# Altium schematic symbol library Other.SchLib: 179 symbols (part 5 of 11)
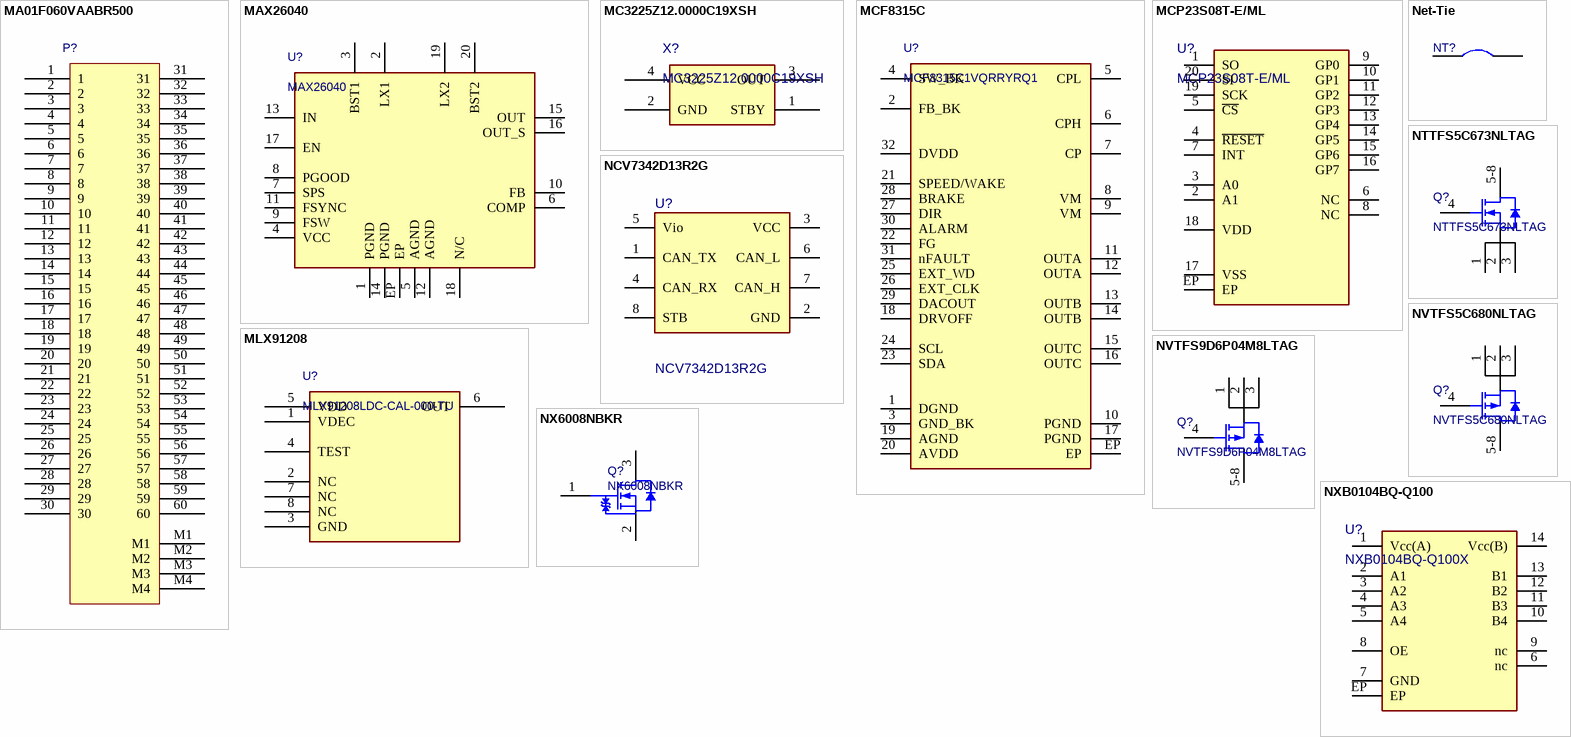
[diagram p12: symbols MA01F060VAABR500 to NXB0104BQ-Q100]

## MCF8315C
designator U?, comment MCF8315C1VQRRYRQ1
Automotive, 40V max, 4A peak, sensorless field-oriented control (FOC) three-phase BLDC motor driver 32-WQFN -40 to 125; Manufacturer: Texas Instruments; Manufacturer Lifecycle Status: ACTIVE; Supplier 1: DigiKey; Supplier Part Number 1: 296-MCF8315C1VQRRYRQ1DKR-ND; Supplier: DigiKey; Supplier Part Number: 296-MCF8315C1VQRRYRQ1DKR-ND; Manufacturer Part Number: MCF8315C1VQRRYRQ1; RoHS: Compliant; Category: Motor Drivers; Pricing: 1=3,67, 10=2,765, 25=2,5392, 100=2,2907, 250=2,17224, 500=2,10084, 1000=2,04208 (USD); Height: 0m; Length: 6mm; Lifecycle Status: Production; Pins: 32; Thickness: 750µm; Width: 4mm; ComponentLink1URL: https://octopart.com:443/opatz8j6/c1?t=RuAKfQwGILErvlz8zObGCjysyK35VJebKBo7uiQpDsL-Xu3haLU6nlF-Ke52ETAZGTbY71omBecyeqNsyvvtQ3kOq347mDWPohrP76M5npt7qIaEEkUcgolibZnC5AjYjxqFyNvOYPDYcX3mZK7ZZMntvvKuK7BfjyLBfFXWBsUJ8YTa8N-u7R_tul0YdjaZA02TaLLH1o9ZC1B2h8Uz3hQHikWUuIG6XvYByXbHPr8e9-29f5clexOhyBBf2amzmzL3vCnDiqKIkF7JJtbXNTFsSzyo5gNa_bWAZ72OTxjPX_UKZmLV5eClsdNjsZfrz8jFxlHuq5QuQavInHZcmOg-nwanHH8BZ0-NJaptGVIRFHBt9s2mF-s4DxvOnw8C0c9xCVa2k_rFFA&src-supplier=Texas+Instruments; ComponentLink1Description: https://octopart.com:443/opatz8j6/c1?t=RuAKfQwGILErvlz8zObGCjysyK35VJebKBo7uiQpDsL-Xu3haLU6nlF-Ke52ETAZGTbY71omBecyeqNsyvvtQ3kOq347mDWPohrP76M5npt7qIaEEkUcgolibZnC5AjYjxqFyNvOYPDYcX3mZK7ZZMntvvKuK7BfjyLBfFXWBsUJ8YTa8N-u7R_tul0YdjaZA02TaLLH1o9ZC1B2h8Uz3hQHikWUuIG6XvYByXbHPr8e9-29f5clexOhyBBf2amzmzL3vCnDiqKIkF7JJtbXNTFsSzyo5gNa_bWAZ72OTxjPX_UKZmLV5eClsdNjsZfrz8jFxlHuq5QuQavInHZcmOg-nwanHH8BZ0-NJaptGVIRFHBt9s2mF-s4DxvOnw8C0c9xCVa2k_rFFA&src-supplier=Texas+Instruments; ComponentLink2URL: http://sigma.octopart.com:80/conflict_mineral_statement/Texas-Instruments-company-63.pdf?src-supplier=Compliance+Statements; ComponentLink2Description: http://sigma.octopart.com:80/conflict_mineral_statement/Texas-Instruments-company-63.pdf?src-supplier=Compliance+Statements; ComponentLink3URL: http://sigma.octopart.com:80/reach_statement/Texas-Instruments-company-64.pdf?src-supplier=Compliance+Statements; ComponentLink3Description: http://sigma.octopart.com:80/reach_statement/Texas-Instruments-company-64.pdf?src-supplier=Compliance+Statements
footprint VQFN32(4x6) (VQFN, 32-Leads, Body 4x6mm)
pins: 1 DGND, 2 FB_BK, 3 GND_BK, 4 SW_BK, 5 CPL, 6 CPH, 7 CP, 8 VM, 9 VM, 10 PGND, 11 OUTA, 12 OUTA, 13 OUTB, 14 OUTB, 15 OUTC, 16 OUTC, 17 PGND, 18 DRVOFF, 19 AGND, 20 AVDD, 21 SPEED/WAKE, 22 FG, 23 SDA, 24 SCL, 25 EXT_WD, 26 EXT_CLK, 27 DIR, 28 BRAKE, 29 DACOUT, 30 ALARM, 31 nFAULT, 32 DVDD, EP

## MCP23S08T-E/ML
designator U?
IC XPNDR 10MHZ SPI 20QFN; Manufacturer: Microchip; Interface: SPI, Serial; Number of I/Os: 8; Operating Supply Voltage: 5.5V; Power Dissipation: 700mW; Supplier: DigiKey; Supplier Part Number: MCP23S08T-E/MLCT-ND; Manufacturer Part Number: MCP23S08T-E/ML; RoHS: Compliant; Category: I/O Expanders; Stock: 10645; Pricing: 1=1,65, 25=1,37, 100=1,325 (USD); Projected EOL Date: 2034-10-04; Case/Package: QFN; Contact Plating: Tin; Country of Assembly: Thailand; Country of Fabrication: United States of America; Country of Origin: Thailand; Export Control Classification Number (ECCN) Code: EAR99; Frequency: 10MHz; Harmonized Tariff Schedule (HTS) Code: 8542.39.0060; Introduction Date: 2006-10-04; Lead Free: Lead Free; Lifecycle Status: Production; Clock Frequency: 10MHz; Max Operating Temperature: 125°C; Min Operating Temperature: -40°C; Pins: 20; Schedule B: 8542390000, 8542390000|8542390000|8542390000|8542390000|8542390000; ComponentLink1URL: https://datasheet.octopart.com:443/MCP23S08T-E/ML-Microchip-datasheet-608140.pdf?src-supplier=Electro+Sonic; ComponentLink1Description: https://datasheet.octopart.com:443/MCP23S08T-E/ML-Microchip-datasheet-608140.pdf?src-supplier=Electro+Sonic; ComponentLink2URL: https://datasheet.octopart.com:443/MCP23S08T-E-ML-Microchip-datasheet-147334618.pdf?src-supplier=Augswan; ComponentLink2Description: https://datasheet.octopart.com:443/MCP23S08T-E-ML-Microchip-datasheet-147334618.pdf?src-supplier=Augswan; ComponentLink3URL: https://datasheet.octopart.com:443/MCP23S08T-E-ML-Microchip-datasheet-158592061.pdf?src-supplier=SHENGYU+ELECTRONICS; ComponentLink3Description: https://datasheet.octopart.com:443/MCP23S08T-E-ML-Microchip-datasheet-158592061.pdf?src-supplier=SHENGYU+ELECTRONICS; ComponentLink4URL: https://datasheet.octopart.com:443/MCP23S08T-E/ML-Microchip-datasheet-139544.pdf?src-supplier=DigiKey; ComponentLink4Description: https://datasheet.octopart.com:443/MCP23S08T-E/ML-Microchip-datasheet-139544.pdf?src-supplier=DigiKey; ComponentLink5URL: https://datasheet.octopart.com:443/MCP23S08T-E/ML-Microchip-datasheet-204.pdf?src-supplier=Mouser; ComponentLink5Description: https://datasheet.octopart.com:443/MCP23S08T-E/ML-Microchip-datasheet-204.pdf?src-supplier=Mouser; ComponentLink6URL: https://datasheet.octopart.com:443/MCP23S08T-E-ML-Microchip-datasheet-166015138.pdf?src-supplier=Microchip; ComponentLink6Description: https://datasheet.octopart.com:443/MCP23S08T-E-ML-Microchip-datasheet-166015138.pdf?src-supplier=Microchip; ComponentLink7URL: http://sigma.octopart.com:80/188450168/materials_sheet/Microchip-MCP23S08T-E-ML.pdf?src-supplier=Compliance+Statements; ComponentLink7Description: http://sigma.octopart.com:80/188450168/materials_sheet/Microchip-MCP23S08T-E-ML.pdf?src-supplier=Compliance+Statements; ComponentLink8URL: http://sigma.octopart.com:80/conflict_mineral_statement/Microchip-company-68.pdf?src-supplier=Compliance+Statements; ComponentLink8Description: http://sigma.octopart.com:80/conflict_mineral_statement/Microchip-company-68.pdf?src-supplier=Compliance+Statements; ComponentLink9URL: http://sigma.octopart.com:80/conflict_mineral_statement/Microchip-company-69.pdf?src-supplier=Compliance+Statements; ComponentLink9Description: http://sigma.octopart.com:80/conflict_mineral_statement/Microchip-company-69.pdf?src-supplier=Compliance+Statements; ComponentLink10URL: http://sigma.octopart.com:80/reach_statement/Microchip-company-70.pdf?src-supplier=Compliance+Statements; ComponentLink10Description: http://sigma.octopart.com:80/reach_statement/Microchip-company-70.pdf?src-supplier=Compliance+Statements; ComponentLink11URL: http://sigma.octopart.com:80/rohs_statement/Microchip-company-71.pdf?src-supplier=Compliance+Statements; ComponentLink11Description: http://sigma.octopart.com:80/rohs_statement/Microchip-company-71.pdf?src-supplier=Compliance+Statements; Supplier 1: DigiKey; Supplier Part Number 1: MCP23S08T-E/MLCT-ND
footprint QFN-20(4x4) (Plastic low profile quad flat package; 20Pin; 4X4mm)
pins: 1 SO, 2 A1, 3 A0, 4 ~{RESET}, 5 ~{CS}, 6 NC, 7 INT, 8 NC, 9 GP0, 10 GP1, 11 GP2, 12 GP3, 13 GP4, 14 GP5, 15 GP6, 16 GP7, 17 VSS, 18 VDD, 19 SCK, 20 SI, EP

## MLX91208
designator U?, comment MLX91208LDC-CAL-000-TU
Hall Effect Sensor, -10mT Min, 10mT Max, -2-2mA, Plastic/epoxy, Rectangular, 8 Pin, Surface Mount; Manufacturer: Melexis; Accuracy: 0.1%; Current Rating: 14mA; Frequency: 200kHz; Linearity: 0.75%; Max Junction Temperature (Tj): 155°C; Max Output current: 2mA; Max Supply Voltage: 5.5V; Min Supply Voltage: 4.5V; Number of Channels: 1; Operating Supply Current: 12mA; Output Configuration: Analog; Polarity: Bidirectional; Response Time: 3µs; Supplier 1: DigiKey; Supplier Part Number 1: MLX91208LDC-CAL-000-TU-ND; Supplier: DigiKey; Supplier Part Number: MLX91208LDC-CAL-000-TU-ND; Manufacturer Part Number: MLX91208LDC-CAL-000-TU; RoHS: Compliant; Category: Magnetic Sensors; Stock: 619; Pricing: 1=4,05, 5=3,624, 10=3,468, 25=3,28, 80=3,071, 160=2,96038, 560=2,78313, 1040=2,70527 (USD); Ambient Temperature Range High: 150°C; Case/Package: SOIC; Height: 1.64mm; Lead Free: Lead Free; Length: 4.89mm; Lifecycle Status: Production; Max Operating Temperature: 150°C; Max Supply Current: 14mA; Min Operating Temperature: -40°C; Mounting Technology: Surface Mount; Number of Terminals: 8; Output Current: 2mA; REACH SVHC: Yes; Sensing Method: Hall Effect; ComponentLink1URL: https://datasheet.octopart.com:443/MLX91208LDC-CAL-000-TU-Melexis-datasheet-180628137.pdf?src-supplier=IHS; ComponentLink1Description: https://datasheet.octopart.com:443/MLX91208LDC-CAL-000-TU-Melexis-datasheet-180628137.pdf?src-supplier=IHS; ComponentLink2URL: https://datasheet.octopart.com:443/MLX91208LDC-CAL-000-TU-Melexis-datasheet-62983323.pdf?src-supplier=Future+Electronics; ComponentLink2Description: https://datasheet.octopart.com:443/MLX91208LDC-CAL-000-TU-Melexis-datasheet-62983323.pdf?src-supplier=Future+Electronics; ComponentLink3URL: https://datasheet.octopart.com:443/MLX91208LDC-CAL-000-TU-Melexis-datasheet-31820421.pdf?src-supplier=Future+Electronics; ComponentLink3Description: https://datasheet.octopart.com:443/MLX91208LDC-CAL-000-TU-Melexis-datasheet-31820421.pdf?src-supplier=Future+Electronics
footprint SOIC8 (8-SOIC (0.154", 3.90mm Width))
pins: 1 VDEC, 2 NC, 3 GND, 4 TEST, 5 VDD, 6 OUT, 7 NC, 8 NC

## NCV7342D13R2G
designator U?
IC TRANSCEIVER HALF 1/1 8SOIC; Manufacturer: ON Semiconductor; Data Rate: 1Mbps; Max Supply Voltage: 5.5V; Min Supply Voltage: 4.5V; Number of Transceivers: 1; Supplier 1: Digi-Key; Manufacturer Part Number: NCV7342D13R2G; RoHS: Yes; Category: Interface ICs; Pricing 1: 1=0.95000, 10=0.85000, 25=0.80680, 100=0.66290, 250=0.61968, 500=0.54760, 1000=0.47582 (USD); Mount: Surface Mount; Case/Package: SOIC; Number of Pins: 8; Min Operating Temperature: -40°C; Max Operating Temperature: 125°C; Packaging: Tape and Reel; Package Quantity: 3000; Lead Free: Lead Free; RoHS Compliant: Yes; ComponentLink1URL: http://www.farnell.com/datasheets/2160795.pdf?src-supplier=Farnell; ComponentLink1Description: http://www.farnell.com/datasheets/2160795.pdf?src-supplier=Farnell; ComponentLink2URL: http://www.mouser.com/ds/2/308/NCV7342-D-269211.pdf?src-supplier=Mouser; ComponentLink2Description: http://www.mouser.com/ds/2/308/NCV7342-D-269211.pdf?src-supplier=Mouser; ComponentLink3URL: http://www.onsemi.com/pub/Collateral/NCV7342-D.PDF?src-supplier=Digi-Key; ComponentLink3Description: http://www.onsemi.com/pub/Collateral/NCV7342-D.PDF?src-supplier=Digi-Key; ComponentLink4URL: http://www.onsemi.com/pub_link/Collateral/NCV7342-D.PDF?src-supplier=Avnet; ComponentLink4Description: http://www.onsemi.com/pub_link/Collateral/NCV7342-D.PDF?src-supplier=Avnet; ComponentLink5URL: http://www.farnell.com/datasheets/2160795.pdf?src-supplier=Newark; ComponentLink5Description: http://www.farnell.com/datasheets/2160795.pdf?src-supplier=Newark; ComponentLink6URL: http://www.farnell.com/datasheets/2160795.pdf?src-supplier=Element14; ComponentLink6Description: http://www.farnell.com/datasheets/2160795.pdf?src-supplier=Element14; Supplier Part Number 1: NCV7342D13R2GOSCT-ND
footprint SOIC8 (8-SOIC (0.154", 3.90mm Width))
pins: 1 CAN_TX, 2 GND, 3 VCC, 4 CAN_RX, 5 Vio, 6 CAN_L, 7 CAN_H, 8 STB

## Net-Tie
designator NT?  (net tie, no BOM)
Net-Tie
footprint Connection (No component PCB connection)
footprint Connection_2mm (No component PCB connection)
pins: 1, 2

## NTTFS5C673NLTAG
designator Q?
MOSFET N-CH 60V 13A/50A 8WDFN; Manufacturer: ON Semiconductor; Continuous Drain Current (ID): 50A; Rds On Max: 9.3mR; Input Capacitance: 880pF; Max Power Dissipation: 46W; Threshold Voltage: 2V; Supplier: Digikey; Supplier Part Number: NTTFS5C673NLTAGOSCT-ND; Manufacturer Part Number: NTTFS5C673NLTAG; RoHS: Yes; Category: MOSFETs; Stock: 1292; Pricing: 1=0,95, 10=0,574, 25=0,4752, 100=0,3638, 250=0,309, 500=0,27528 (USD); Mounting Technology: Surface Mount; Pins: 8; Min Operating Temperature: -55°C; Max Operating Temperature: 175°C; Packaging: Cut Tape; Drain to Source Voltage (Vdss): 60V; Series: -; Reach SVHC Compliant: No; Lead Free: Lead Free; RoHS Compliant: Yes; ComponentLink1URL: http://www.mouser.com/ds/2/308/NTTFS5C673NL-D-931494.pdf?src-supplier=Mouser; ComponentLink1Description: http://www.mouser.com/ds/2/308/NTTFS5C673NL-D-931494.pdf?src-supplier=Mouser; ComponentLink2URL: http://www.onsemi.com/pub/Collateral/NTTFS5C673NL-D.PDF?src-supplier=Digikey; ComponentLink2Description: http://www.onsemi.com/pub/Collateral/NTTFS5C673NL-D.PDF?src-supplier=Digikey; ComponentLink3URL: http://www.farnell.com/datasheets/2053000.pdf?src-supplier=Element14; ComponentLink3Description: http://www.farnell.com/datasheets/2053000.pdf?src-supplier=Element14
footprint WDFN8 (WDFN8 3.3x3.3mm)
pins: 1 S, 2 S, 3 S, 4 G, 5-8 D

## NVTFS5C680NLTAG
designator Q?
Single N-Channel Power MOSFET 60V, 20A, 26.5mΩ 1500 / Tape & Reel; Manufacturer: onsemi; Manufacturer Lifecycle Status: ACTIVE; Continuous Drain Current (ID): 7.82A; Drain to Source Resistance: 42.5mΩ; Gate to Source Voltage (Vgs): 20V; Max Junction Temperature (Tj): 175°C; Number of Channels: 1; Power Dissipation: 3W; Turn-Off Delay Time: 13ns; Turn-On Delay Time: 6.5ns; Supplier 1: DigiKey; Supplier Part Number 1: NVTFS5C680NLTAGOSCT-ND; Supplier: DigiKey; Supplier Part Number: NVTFS5C680NLTAGOSCT-ND; Manufacturer Part Number: NVTFS5C680NLTAG; RoHS: Compliant; Category: MOSFETs; Stock: 6169; Pricing: 1=1,18, 10=0,765, 100=0,5641, 500=0,44842 (USD); China RoHS: Non-Compliant; Drain to Source Breakdown Voltage: 60V; Drain to Source Voltage (Vdss): 60V; Height: 800µm; Lifecycle Status: Production; Max Operating Temperature: 175°C; Min Breakdown Voltage: 60V; Min Operating Temperature: -55°C; Number of Elements: 1; Number of Terminals: 5; REACH SVHC: No; Schedule B: 8541290080; ComponentLink1URL: https://datasheet.octopart.com:443/NVTFS5C680NLTAG-onsemi-datasheet-156001634.pdf?src-supplier=IHS; ComponentLink1Description: https://datasheet.octopart.com:443/NVTFS5C680NLTAG-onsemi-datasheet-156001634.pdf?src-supplier=IHS; ComponentLink2URL: https://sigma.octopart.com:443/138898242/technical_drawing/onsemi-NVTFS5C680NLTAG.pdf?src-supplier=Upverter; ComponentLink2Description: https://sigma.octopart.com:443/138898242/technical_drawing/onsemi-NVTFS5C680NLTAG.pdf?src-supplier=Upverter; ComponentLink3URL: https://datasheet.octopart.com:443/NVTFS5C680NLTAG-ON-Semiconductor-datasheet-139013615.pdf?src-supplier=Electro+Sonic; ComponentLink3Description: https://datasheet.octopart.com:443/NVTFS5C680NLTAG-ON-Semiconductor-datasheet-139013615.pdf?src-supplier=Electro+Sonic; ComponentLink4URL: https://datasheet.octopart.com:443/NVTFS5C680NLTAG-ON-Semiconductor-datasheet-68307394.pdf?src-supplier=onsemi; ComponentLink4Description: https://datasheet.octopart.com:443/NVTFS5C680NLTAG-ON-Semiconductor-datasheet-68307394.pdf?src-supplier=onsemi; ComponentLink5URL: http://sigma.octopart.com:80/150630591/rohs_statement/ON-Semiconductor-NVTFS5C680NLTAG.pdf?src-supplier=Compliance+Statements; ComponentLink5Description: http://sigma.octopart.com:80/150630591/rohs_statement/ON-Semiconductor-NVTFS5C680NLTAG.pdf?src-supplier=Compliance+Statements; ComponentLink6URL: http://sigma.octopart.com:80/reach_statement/ON-Semiconductor-company-79.pdf?src-supplier=Compliance+Statements; ComponentLink6Description: http://sigma.octopart.com:80/reach_statement/ON-Semiconductor-company-79.pdf?src-supplier=Compliance+Statements; ComponentLink7URL: https://octopart.com:443/opatz8j6/c1?t=ArcHL9UVBtlnzVgGHBfE7a_h9s1YCUtyd8EDdrHC2PTUW_HO2F9quOn9Y5qfsPY5s_Zyk4nkk7QJz5arH-e3I-c2JgQX-GlOuwlXsGSnoa6izDJP0gTMAvJ8KuOelPQbjo9v-EU_jN9aE1yl8YbPbWwLo9E9kCztZ3rs5Vyvwbjj-VOdYIXD0ftJl_GLyja-EMH9toYYVXBKtPNt2Lro4vR8BXDVQfe8Ht8DVJ2QjP2pCJLbDj8K3xepgBTNK6OdPZyth80JI6fQIq3nxLqte9py_zn8nzyBerFRCf-pzXU6IvNc9lywlFQuURd4V-3OjG2V8Rdw4KbLbxH9GkL7AtSek62PVATgeyEUN7Kc7PnaZg&src-supplier=Compliance+Statements; ComponentLink7Description: https://octopart.com:443/opatz8j6/c1?t=ArcHL9UVBtlnzVgGHBfE7a_h9s1YCUtyd8EDdrHC2PTUW_HO2F9quOn9Y5qfsPY5s_Zyk4nkk7QJz5arH-e3I-c2JgQX-GlOuwlXsGSnoa6izDJP0gTMAvJ8KuOelPQbjo9v-EU_jN9aE1yl8YbPbWwLo9E9kCztZ3rs5Vyvwbjj-VOdYIXD0ftJl_GLyja-EMH9toYYVXBKtPNt2Lro4vR8BXDVQfe8Ht8DVJ2QjP2pCJLbDj8K3xepgBTNK6OdPZyth80JI6fQIq3nxLqte9py_zn8nzyBerFRCf-pzXU6IvNc9lywlFQuURd4V-3OjG2V8Rdw4KbLbxH9GkL7AtSek62PVATgeyEUN7Kc7PnaZg&src-supplier=Compliance+Statements; ComponentLink8URL: https://octopart.com:443/opatz8j6/c1?t=h028ATufzzsJULRA869P7SZdp-Wpt_KrC2RqInijH6hskcWW-EmMUlj6YmKXcR85Vsly7Dd6lRvBMnUsxBjqw7HuW468MJPRVMESG6AfSRrF3fc7wNxoHbnHWYy9p2S6yWE15ZT_C0ePY1I1Pr14F-IoE6e51Hjtjgr99Pia2upkj5Jfun9iC7CH3qbYtMOLk3beEKJxRaW3SuxADs7wRVUmiQJqOo6xhMZPamc0Oi3UyJXbS9Rbe3KTkBNR1sUivbaF_XMKqIelNr3QkLPL63EEAlWLzFVl9DhtTJXBY2-FGDPyIlfr2SKAZRmrwAymqeP9bpEpz5eT7QN5mmgp67ypEV-l3fKOUDoZ6FfOr0nO474&src-supplier=Compliance+Statements; ComponentLink8Description: https://octopart.com:443/opatz8j6/c1?t=h028ATufzzsJULRA869P7SZdp-Wpt_KrC2RqInijH6hskcWW-EmMUlj6YmKXcR85Vsly7Dd6lRvBMnUsxBjqw7HuW468MJPRVMESG6AfSRrF3fc7wNxoHbnHWYy9p2S6yWE15ZT_C0ePY1I1Pr14F-IoE6e51Hjtjgr99Pia2upkj5Jfun9iC7CH3qbYtMOLk3beEKJxRaW3SuxADs7wRVUmiQJqOo6xhMZPamc0Oi3UyJXbS9Rbe3KTkBNR1sUivbaF_XMKqIelNr3QkLPL63EEAlWLzFVl9DhtTJXBY2-FGDPyIlfr2SKAZRmrwAymqeP9bpEpz5eT7QN5mmgp67ypEV-l3fKOUDoZ6FfOr0nO474&src-supplier=Compliance+Statements
footprint WDFN8 (WDFN8 3.3x3.3mm)
pins: 1 S, 2 S, 3 S, 4 G, 5-8 D

## NVTFS9D6P04M8LTAG
designator Q?
MOSFET P-CH 40V 13A/64A 8WDFN; Manufacturer: ON Semiconductor; Continuous Drain Current (ID): -13A; Drain to Source Breakdown Voltage: -40V; Drain to Source Resistance: 7.5mR; Gate to Source Voltage (Vgs): 20V; Number of Channels: 1NUMBER; Power Dissipation: 3.2W; Turn-Off Delay Time: 74.6ns; Turn-On Delay Time: 12.6ns; Supplier: Digikey; Supplier Part Number: 488-NVTFS9D6P04M8LTAGCT-ND; Manufacturer Part Number: NVTFS9D6P04M8LTAG; RoHS: Yes; Category: MOSFETs; Stock: 17101; Pricing: 1=1,94, 10=1,253, 100=0,8468, 500=0,67282 (USD); Min Operating Temperature: -55°C; Max Operating Temperature: 175°C; Drain to Source Voltage (Vdss): -40V; Height: 800um; Supplier 1: Digikey; Supplier Part Number 1: 488-NVTFS9D6P04M8LTAGCT-ND
footprint WDFN8 (WDFN8 3.3x3.3mm)
pins: 1 S, 2 S, 3 S, 4 G, 5-8 D

## NX6008NBKR
designator Q?
NX6008NBK/SOT23/TO-236AB; Manufacturer: Nexperia; ComponentLink1URL: https://assets.nexperia.com/documents/data-sheet/BAT54_SER.pdf?src-supplier=Digi-Key; ComponentLink1Description: https://assets.nexperia.com/documents/data-sheet/BAT54_SER.pdf?src-supplier=Digi-Key; ComponentLink2URL: https://datasheet.ciiva.com/5836/276131-5836616.pdf?src-supplier=Farnell; ComponentLink2Description: https://datasheet.ciiva.com/5836/276131-5836616.pdf?src-supplier=Farnell; Supplier: Digikey; Supplier Part Number: 1727-NX6008NBKRCT-ND; Manufacturer Part Number: NX6008NBKR; RoHS: No; Category: MOSFETs; Stock: 4517; Pricing: 1=0,18, 10=0,111, 100=0,041, 500=0,04, 1000=0,037 (USD); ComponentLink3URL: https://datasheet.octopart.com/NX6008NBKR-Nexperia-datasheet-155341956.pdf?src-supplier=Future+Electronics; ComponentLink3Description: https://datasheet.octopart.com/NX6008NBKR-Nexperia-datasheet-155341956.pdf?src-supplier=Future+Electronics; Supplier 1: Digikey; Supplier Part Number 1: 1727-NX6008NBKRCT-ND
footprint SOT-23 (SOT23, 3-Leads, Body 2.92x1.3mm, Pitch 0.95mm)
pins: 1 G, 2 S, 3 D

## NXB0104BQ-Q100
designator U?, comment NXB0104BQ-Q100X
IC XLTR VL BIDIR 14-DHVQFN; Manufacturer: Nexperia; Manufacturer Lifecycle Status: RELEASED FOR SUPPLY; Supplier: DigiKey; Supplier Part Number: 1727-NXB0104BQ-Q100XCT-ND; Manufacturer Part Number: NXB0104BQ-Q100X; RoHS: Compliant; Category: Voltage Level Shifters; Stock: 3106; Pricing: 1=0,73, 10=0,517, 25=0,4648, 100=0,4068, 250=0,3792, 500=0,36258, 1000=0,35771 (USD); Lifecycle Status: Production; ComponentLink1URL: https://datasheet.octopart.com:443/NXB0104BQ-Q100X-Nexperia-datasheet-137152397.pdf?src-supplier=Future+Electronics; ComponentLink1Description: https://datasheet.octopart.com:443/NXB0104BQ-Q100X-Nexperia-datasheet-137152397.pdf?src-supplier=Future+Electronics; Supplier 1: DigiKey; Supplier Part Number 1: 1727-NXB0104BQ-Q100XCT-ND
footprint DHVQFN14 (plastic, leadless dual in-line compatible thermal enhanced / very thin quad flat package; 14 terminals; 0.5 mm pitch; 2.5x3x1 mm body)
pins: 1 Vcc(A), 2 A1, 3 A2, 4 A3, 5 A4, 6 nc, 7 GND, 8 OE, 9 nc, 10 B4, 11 B3, 12 B2, 13 B1, 14 Vcc(B), EP

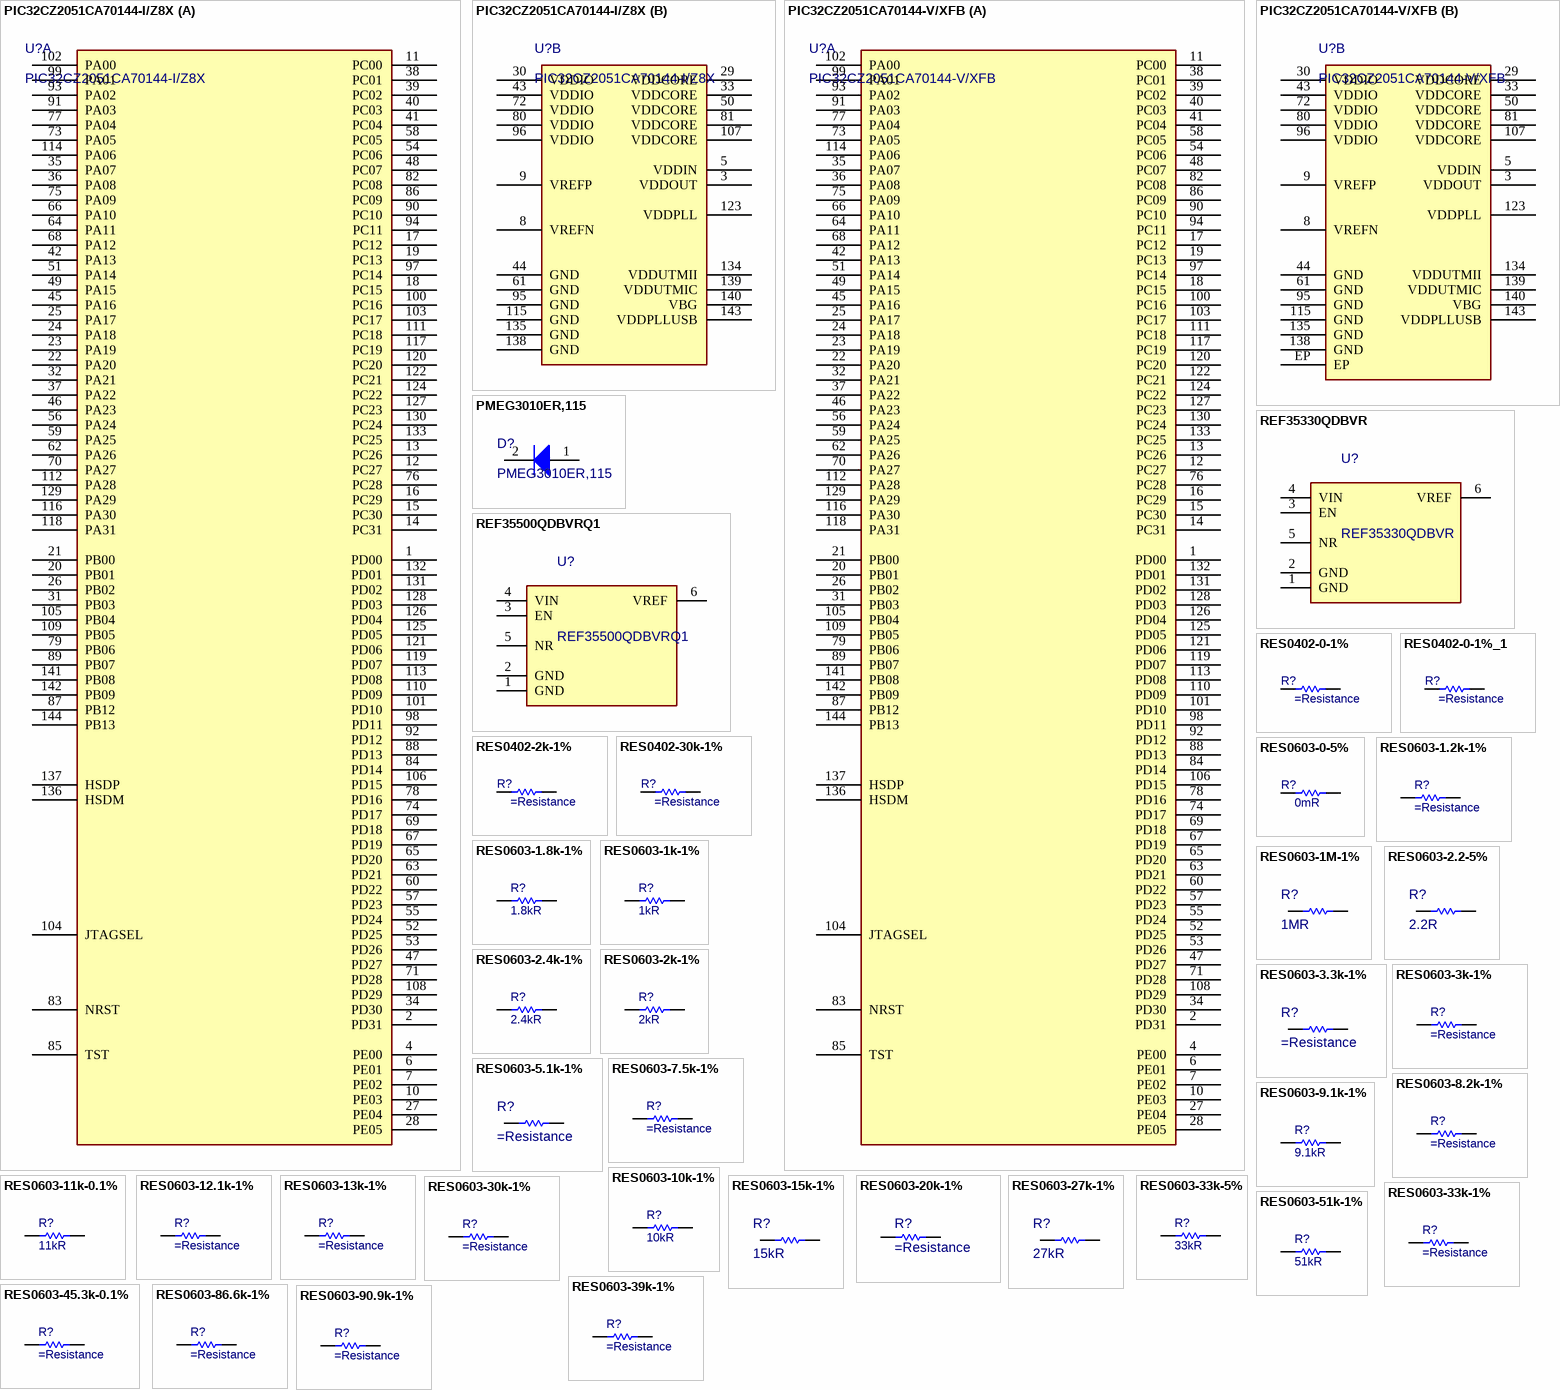
[diagram p6: symbols PIC32CZ2051CA70144-I/Z8X to RES0603-90.9k-1%]

## PIC32CZ2051CA70144-I/Z8X
designator U?
CM7, 2048kB Flash, 512kB SRAM, TQFP144; Manufacturer: Microchip; Supplier 1: Digikey; Supplier Part Number 1: 150-PIC32CZ2051CA70144-I/Z8X-ND; Supplier: Digikey; Supplier Part Number: 150-PIC32CZ2051CA70144-I/Z8X-ND; Manufacturer Part Number: PIC32CZ2051CA70144-I/Z8X; RoHS: No; Category: Microcontrollers; Stock: 120; Pricing: 1=8,06, 25=7,32, 100=6,66 (USD); ComponentLink1URL: https://datasheet.octopart.com/PIC32CZ2051CA70144-I-Z8X-Microchip-datasheet-187817571.pdf?src-supplier=microchipDIRECT; ComponentLink1Description: https://datasheet.octopart.com/PIC32CZ2051CA70144-I-Z8X-Microchip-datasheet-187817571.pdf?src-supplier=microchipDIRECT
footprint LQFP144 (144-Lead Plastic Thin Quad Flat Pack, 20x20mm)
part A pins: 1 PD00, 2 PD31, 4 PE00, 6 PE01, 7 PE02, 10 PE03, 11 PC00, 12 PC27, 13 PC26, 14 PC31, 15 PC30, 16 PC29, 17 PC12, 18 PC15, 19 PC13, 20 PB01, 21 PB00, 22 PA20, 23 PA19, 24 PA18, 25 PA17, 26 PB02, 27 PE04, 28 PE05, 31 PB03, 32 PA21, 34 PD30, 35 PA07, 36 PA08, 37 PA22, 38 PC01, 39 PC02, 40 PC03, 41 PC04, 42 PA13, 45 PA16, 46 PA23, 47 PD27, 48 PC07, 49 PA15, 51 PA14, 52 PD25, 53 PD26, 54 PC06, 55 PD24, 56 PA24, 57 PD23, 58 PC05, 59 PA25, 60 PD22, 62 PA26, 63 PD21, 64 PA11, 65 PD20, 66 PA10, 67 PD19, 68 PA12, 69 PD18, 70 PA27, 71 PD28, 73 PA05, 74 PD17, 75 PA09, 76 PC28, 77 PA04, 78 PD16, 79 PB06, 82 PC08, 83 NRST, 84 PD14, 85 TST, 86 PC09, 87 PB12, 88 PD13, 89 PB07, 90 PC10, 91 PA03, 92 PD12, 93 PA02, 94 PC11, 97 PC14, 98 PD11, 99 PA01, 100 PC16, 101 PD10, 102 PA00, 103 PC17, 104 JTAGSEL, 105 PB04, 106 PD15, 108 PD29, 109 PB05, 110 PD09, 111 PC18, 112 PA28, 113 PD08, 114 PA06, 116 PA30, 117 PC19, 118 PA31, 119 PD07, 120 PC20, 121 PD06, 122 PC21, 124 PC22, 125 PD05, 126 PD04, 127 PC23, 128 PD03, 129 PA29, 130 PC24, 131 PD02, 132 PD01, 133 PC25, 136 HSDM, 137 HSDP, 141 PB08, 142 PB09, 144 PB13
part B pins: 3 VDDOUT, 5 VDDIN, 8 VREFN, 9 VREFP, 29 VDDCORE, 30 VDDIO, 33 VDDCORE, 43 VDDIO, 44 GND, 50 VDDCORE, 61 GND, 72 VDDIO, 80 VDDIO, 81 VDDCORE, 95 GND, 96 VDDIO, 107 VDDCORE, 115 GND, 123 VDDPLL, 134 VDDUTMII, 135 GND, 138 GND, 139 VDDUTMIC, 140 VBG, 143 VDDPLLUSB

## PIC32CZ2051CA70144-V/XFB
designator U?
CM7, 2048KB FLASH, 512KB SRAM, E; Manufacturer: Microchip; Supplier 1: DigiKey; Supplier Part Number 1: 150-PIC32CZ2051CA70144-V/XFB-ND; Supplier: DigiKey; Supplier Part Number: 150-PIC32CZ2051CA70144-V/XFB-ND; Manufacturer Part Number: PIC32CZ2051CA70144-V/XFB; Category: Microcontrollers; Pricing: 120=7,32008 (USD); Projected EOL Date: 2050-06-04; Case/Package: TQFP; Country of Assembly: Philippines; Country of Fabrication: Singapore; Country of Origin: Philippines; Export Control Classification Number (ECCN) Code: 3A991.a.2; Harmonized Tariff Schedule (HTS) Code: 8542.31.0025; Introduction Date: 2025-06-04; Lifecycle Status: Production; Pins: 144; ComponentLink1URL: https://datasheet.octopart.com:443/PIC32CZ2051CA70144-V-XFB-Microchip-datasheet-187817571.pdf?src-supplier=Microchip; ComponentLink1Description: https://datasheet.octopart.com:443/PIC32CZ2051CA70144-V-XFB-Microchip-datasheet-187817571.pdf?src-supplier=Microchip; ComponentLink2URL: http://sigma.octopart.com:80/rohs_statement/Microchip-company-71.pdf?src-supplier=Compliance+Statements; ComponentLink2Description: http://sigma.octopart.com:80/rohs_statement/Microchip-company-71.pdf?src-supplier=Compliance+Statements; ComponentLink3URL: http://sigma.octopart.com:80/reach_statement/Microchip-company-70.pdf?src-supplier=Compliance+Statements; ComponentLink3Description: http://sigma.octopart.com:80/reach_statement/Microchip-company-70.pdf?src-supplier=Compliance+Statements; ComponentLink4URL: http://sigma.octopart.com:80/conflict_mineral_statement/Microchip-company-69.pdf?src-supplier=Compliance+Statements; ComponentLink4Description: http://sigma.octopart.com:80/conflict_mineral_statement/Microchip-company-69.pdf?src-supplier=Compliance+Statements; ComponentLink5URL: http://sigma.octopart.com:80/conflict_mineral_statement/Microchip-company-68.pdf?src-supplier=Compliance+Statements; ComponentLink5Description: http://sigma.octopart.com:80/conflict_mineral_statement/Microchip-company-68.pdf?src-supplier=Compliance+Statements
footprint LQFP144-EP (144-Lead Plastic Thin Quad Flat Pack with epad, 20x20mm)
part A pins: 1 PD00, 2 PD31, 4 PE00, 6 PE01, 7 PE02, 10 PE03, 11 PC00, 12 PC27, 13 PC26, 14 PC31, 15 PC30, 16 PC29, 17 PC12, 18 PC15, 19 PC13, 20 PB01, 21 PB00, 22 PA20, 23 PA19, 24 PA18, 25 PA17, 26 PB02, 27 PE04, 28 PE05, 31 PB03, 32 PA21, 34 PD30, 35 PA07, 36 PA08, 37 PA22, 38 PC01, 39 PC02, 40 PC03, 41 PC04, 42 PA13, 45 PA16, 46 PA23, 47 PD27, 48 PC07, 49 PA15, 51 PA14, 52 PD25, 53 PD26, 54 PC06, 55 PD24, 56 PA24, 57 PD23, 58 PC05, 59 PA25, 60 PD22, 62 PA26, 63 PD21, 64 PA11, 65 PD20, 66 PA10, 67 PD19, 68 PA12, 69 PD18, 70 PA27, 71 PD28, 73 PA05, 74 PD17, 75 PA09, 76 PC28, 77 PA04, 78 PD16, 79 PB06, 82 PC08, 83 NRST, 84 PD14, 85 TST, 86 PC09, 87 PB12, 88 PD13, 89 PB07, 90 PC10, 91 PA03, 92 PD12, 93 PA02, 94 PC11, 97 PC14, 98 PD11, 99 PA01, 100 PC16, 101 PD10, 102 PA00, 103 PC17, 104 JTAGSEL, 105 PB04, 106 PD15, 108 PD29, 109 PB05, 110 PD09, 111 PC18, 112 PA28, 113 PD08, 114 PA06, 116 PA30, 117 PC19, 118 PA31, 119 PD07, 120 PC20, 121 PD06, 122 PC21, 124 PC22, 125 PD05, 126 PD04, 127 PC23, 128 PD03, 129 PA29, 130 PC24, 131 PD02, 132 PD01, 133 PC25, 136 HSDM, 137 HSDP, 141 PB08, 142 PB09, 144 PB13
part B pins: 3 VDDOUT, 5 VDDIN, 8 VREFN, 9 VREFP, 29 VDDCORE, 30 VDDIO, 33 VDDCORE, 43 VDDIO, 44 GND, 50 VDDCORE, 61 GND, 72 VDDIO, 80 VDDIO, 81 VDDCORE, 95 GND, 96 VDDIO, 107 VDDCORE, 115 GND, 123 VDDPLL, 134 VDDUTMII, 135 GND, 138 GND, 139 VDDUTMIC, 140 VBG, 143 VDDPLLUSB, EP

## PMEG3010ER,115
designator D?
DIODE SCHOTTKY 30V 1A SOD123W; Manufacturer: Nexperia; Value: 170pF; Max Forward Surge Current (Ifsm): 50A; Max Reverse Current: 600uA; Supplier: Digikey; Supplier Part Number: 1727-5201-1-ND; Manufacturer Part Number: PMEG3010ER,115; RoHS: Yes; Category: Rectifier Diodes; Stock: 65699; Pricing: 1=0,19, 10=0,134, 100=0,1027, 500=0,08982, 1000=0,0834 (USD); Max Operating Temperature: 150°C; Packaging: 10Packaging; Forward Current: 1A; Max Repetitive Reverse Voltage (Vrrm): 30V; Reverse Voltage: 30V; Height: 1.1mm; ComponentLink1URL: http://www.farnell.com/datasheets/1383345.pdf?src-supplier=Farnell; ComponentLink1Description: http://www.farnell.com/datasheets/1383345.pdf?src-supplier=Farnell; ComponentLink2URL: https://assets.nexperia.com/documents/data-sheet/PMEG3010ER.pdf?src-supplier=Digikey; ComponentLink2Description: https://assets.nexperia.com/documents/data-sheet/PMEG3010ER.pdf?src-supplier=Digikey; ComponentLink3URL: https://datasheet.octopart.com/PMEG3010ER%2C115-Nexperia-datasheet-86648467.pdf?src-supplier=TME; ComponentLink3Description: https://datasheet.octopart.com/PMEG3010ER%2C115-Nexperia-datasheet-86648467.pdf?src-supplier=TME; Supplier 1: Digikey; Supplier Part Number 1: 1727-5201-1-ND
footprint SOD-123 (SOD, 2-Leads, Body 2.69x1.6mm)
pins: 1, 2

## REF35330QDBVR
designator U?
IC VREF SERIES SOT23-6; Manufacturer: Texas Instruments; Max Supply Voltage: 6V; Min Supply Voltage: 3.55V; Nominal Supply Current: 650nA; Number of Outputs: 1NUMBER; Output Current: 10mA; Output Voltage: 3.3V; Supplier: Digikey; Supplier Part Number: 296-REF35330QDBVRCT-ND; Manufacturer Part Number: REF35330QDBVR; RoHS: No; Category: Voltage References; Stock: 5957; Pricing: 1=1,91, 10=1,407, 25=1,2812, 100=1,1426, 250=1,07652, 500=1,03672, 1000=1,00393 (USD); Case/Package: 926Case; Pins: 6NUMBER; Min Operating Temperature: -40°C; Max Operating Temperature: 125°C; Length: 2.9mm; Width: 1.6mm; Thickness: 1.2mm; Supplier 1: Digikey; Supplier Part Number 1: 296-REF35330QDBVRCT-ND
footprint SOT-23-6 (SOT-23, 5-Leads, Body 2.8x1.5mm)
pins: 1 GND, 2 GND, 3 EN, 4 VIN, 5 NR, 6 VREF

## REF35500QDBVRQ1
designator U?
AUTOMOTIVE, 650-NA QUIESCENT CUR; Manufacturer: Texas Instruments; Supplier: Digikey; Supplier Part Number: 296-REF35500QDBVRQ1TR-ND; Manufacturer Part Number: REF35500QDBVRQ1; RoHS: No; Pricing: 3000=1,133, 6000=1,11037, 9000=1,09905 (USD); Case/Package: SOT-23; Pins: 6; Length: 2.9mm; Width: 1.6mm; Thickness: 1.2mm; Supplier 1: Digikey; Supplier Part Number 1: 296-REF35500QDBVRQ1TR-ND
footprint SOT-23-6 (SOT-23, 5-Leads, Body 2.8x1.5mm)
pins: 1 GND, 2 GND, 3 EN, 4 VIN, 5 NR, 6 VREF

## RES0402-0-1%
designator R?
Zero Ohm Resistor, Jumper, 0402 [1005 Metric], Thick Film, 63 mW, 1 A, Surface Mount Device; Manufacturer: Yageo Group; Manufacturer Part Number: RC0402JR-100RL; Resistance: 0Ω; Power Dissipation: 62.5mW; Value: 0Ω; Tolerance: 5%; Supplier 1: DigiKey; Supplier Part Number 1: 13-RC0402JR-100RLCT-ND; Supplier: DigiKey; Supplier Part Number: 13-RC0402JR-100RLCT-ND; RoHS: Compliant; Category: Chip SMD Resistors; Stock: 16047; Pricing: 1=0,1, 10=0,007, 25=0,0052, 50=0,003, 100=0,0028 (USD); Case/Package: 0402; China RoHS: Non-Compliant; Composition: Thick Film; Depth: 500µm; Height: 350µm; Length: 1mm; Lifecycle Status: Production; Max Operating Temperature: 155°C; Military Standard: Not; Min Operating Temperature: -55°C; Mounting Technology: Surface Mount; Number of Terminals: 2; REACH SVHC: Yes; Width: 500µm; ComponentLink1URL: https://datasheet.octopart.com:443/RC0402JR-100RL-Yageo-datasheet-182189538.pdf?src-supplier=IHS; ComponentLink1Description: https://datasheet.octopart.com:443/RC0402JR-100RL-Yageo-datasheet-182189538.pdf?src-supplier=IHS; ComponentLink2URL: https://datasheet.octopart.com:443/RC0402JR-100RL-Yageo-datasheet-164759695.pdf?src-supplier=Future+Electronics; ComponentLink2Description: https://datasheet.octopart.com:443/RC0402JR-100RL-Yageo-datasheet-164759695.pdf?src-supplier=Future+Electronics; ComponentLink3URL: https://datasheet.octopart.com:443/RC0402JR-100RL-Yageo-datasheet-141265859.pdf?src-supplier=Future+Electronics; ComponentLink3Description: https://datasheet.octopart.com:443/RC0402JR-100RL-Yageo-datasheet-141265859.pdf?src-supplier=Future+Electronics; ComponentLink4URL: https://datasheet.octopart.com:443/RC0402JR-100RL-Yageo-datasheet-148775077.pdf?src-supplier=element14+APAC; ComponentLink4Description: https://datasheet.octopart.com:443/RC0402JR-100RL-Yageo-datasheet-148775077.pdf?src-supplier=element14+APAC; ComponentLink5URL: https://datasheet.octopart.com/RC0402JR-100RL-Yageo-datasheet-73766026.pdf; ComponentLink5Description: https://datasheet.octopart.com/RC0402JR-100RL-Yageo-datasheet-73766026.pdf; ComponentLink6URL: http://sigma.octopart.com:80/rohs_statement/Yageo-company-2.pdf?src-supplier=Compliance+Statements; ComponentLink6Description: http://sigma.octopart.com:80/rohs_statement/Yageo-company-2.pdf?src-supplier=Compliance+Statements; ComponentLink7URL: http://sigma.octopart.com:80/conflict_mineral_statement/Yageo-company-3.pdf?src-supplier=Compliance+Statements; ComponentLink7Description: http://sigma.octopart.com:80/conflict_mineral_statement/Yageo-company-3.pdf?src-supplier=Compliance+Statements
footprint R0402 (Chip Resistor, 2-Leads, Body 1.75x0.95mm)
pins: 1, 2

## RES0402-0-1%_1
designator R?
Zero Ohm Resistor, Jumper, 0402 [1005 Metric], Thick Film, 63 mW, 1 A, Surface Mount Device; Resistance: =Value
footprint R0402 (Chip Resistor, 2-Leads, Body 1.75x0.95mm)
pins: 1, 2

## RES0402-2k-1%
designator R?
Zero Ohm Resistor, Jumper, 0402 [1005 Metric], Thick Film, 63 mW, 1 A, Surface Mount Device; Resistance: =Value
footprint R0402 (Chip Resistor, 2-Leads, Body 1.75x0.95mm)
pins: 1, 2

## RES0402-30k-1%
designator R?
Zero Ohm Resistor, Jumper, 0402 [1005 Metric], Thick Film, 63 mW, 1 A, Surface Mount Device; Resistance: =Value
footprint R0402 (Chip Resistor, 2-Leads, Body 1.75x0.95mm)
pins: 1, 2

## RES0603-0-5%
designator R?, comment 0mR
RES SMD 0 OHM JUMPER 1/10W 0603; Manufacturer: Bourns; Manufacturer Part Number: CR0603-J/-000ELF; Temperature Coefficient: 500ppm/°C; Max Power Dissipation: 100mW; Voltage Rating (DC): 50V; Tolerance: 1%; ComponentLink1URL: https://datasheet.ciiva.com/9122/chpreztr-9122363.pdf; ComponentLink1Description: https://datasheet.ciiva.com/9122/chpreztr-9122363.pdf; ComponentLink2URL: https://datasheet.ciiva.com/22713/691949-22713239.pdf?src-supplier=Element14; ComponentLink2Description: https://datasheet.ciiva.com/22713/691949-22713239.pdf?src-supplier=Element14; ComponentLink3URL: https://datasheet.ciiva.com/23776/1902866-23776391.pdf?src-supplier=Newark; ComponentLink3Description: https://datasheet.ciiva.com/23776/1902866-23776391.pdf?src-supplier=Newark; ComponentLink4URL: https://datasheet.ciiva.com/16766/70154685-16766760.pdf?src-supplier=Allied+Electronics; ComponentLink4Description: https://datasheet.ciiva.com/16766/70154685-16766760.pdf?src-supplier=Allied+Electronics; ComponentLink5URL: https://datasheet.ciiva.com/30229/159chpreztr-30229129.pdf?src-supplier=Onlinecomponents.com; ComponentLink5Description: https://datasheet.ciiva.com/30229/159chpreztr-30229129.pdf?src-supplier=Onlinecomponents.com; ComponentLink6URL: https://datasheet.ciiva.com/16935/chpreztr-16935963.pdf?src-supplier=Avnet+Europe; ComponentLink6Description: https://datasheet.ciiva.com/16935/chpreztr-16935963.pdf?src-supplier=Avnet+Europe; ComponentLink7URL: https://datasheet.ciiva.com/5543/chpreztr-5543676.pdf?src-supplier=Mouser; ComponentLink7Description: https://datasheet.ciiva.com/5543/chpreztr-5543676.pdf?src-supplier=Mouser; ComponentLink8URL: https://datasheet.ciiva.com/9120/chpreztr-9120764.pdf?src-supplier=Avnet; ComponentLink8Description: https://datasheet.ciiva.com/9120/chpreztr-9120764.pdf?src-supplier=Avnet; ComponentLink9URL: https://datasheet.ciiva.com/46383/1791942-46383790.pdf?src-supplier=Element14; ComponentLink9Description: https://datasheet.ciiva.com/46383/1791942-46383790.pdf?src-supplier=Element14; ComponentLink10URL: https://datasheet.ciiva.com/48692/001055501-da-01-en-smd-wid-cr0603-jw-104elf-100k-ohm-1-10w-48692133.pdf?src-supplier=Conrad; ComponentLink10Description: https://datasheet.ciiva.com/48692/001055501-da-01-en-smd-wid-cr0603-jw-104elf-100k-ohm-1-10w-48692133.pdf?src-supplier=Conrad; ComponentLink11URL: https://datasheet.ciiva.com/39121/775172-39121475.pdf?src-supplier=Jameco; ComponentLink11Description: https://datasheet.ciiva.com/39121/775172-39121475.pdf?src-supplier=Jameco; ComponentLink12URL: https://datasheet.ciiva.com/30052/159chpreztr-30052709.pdf?src-supplier=Onlinecomponents.com; ComponentLink12Description: https://datasheet.ciiva.com/30052/159chpreztr-30052709.pdf?src-supplier=Onlinecomponents.com; ComponentLink13URL: https://datasheet.ciiva.com/16935/chpreztr-16935910.pdf?src-supplier=Avnet+Europe; ComponentLink13Description: https://datasheet.ciiva.com/16935/chpreztr-16935910.pdf?src-supplier=Avnet+Europe; ComponentLink14URL: https://datasheet.ciiva.com/46383/1791942-46383767.pdf?src-supplier=Element14; ComponentLink14Description: https://datasheet.ciiva.com/46383/1791942-46383767.pdf?src-supplier=Element14; ComponentLink15URL: https://datasheet.ciiva.com/7986/1902866-7986185.pdf?src-supplier=Element14; ComponentLink15Description: https://datasheet.ciiva.com/7986/1902866-7986185.pdf?src-supplier=Element14; ComponentLink16URL: https://datasheet.ciiva.com/6547/chpreztr-6547278.pdf?src-supplier=Digi-Key; ComponentLink16Description: https://datasheet.ciiva.com/6547/chpreztr-6547278.pdf?src-supplier=Digi-Key; ComponentLink17URL: https://datasheet.ciiva.com/6547/chpreztr-6547279.pdf?src-supplier=Digi-Key; ComponentLink17Description: https://datasheet.ciiva.com/6547/chpreztr-6547279.pdf?src-supplier=Digi-Key; ComponentLink18URL: https://datasheet.ciiva.com/16757/70154685-16757477.pdf?src-supplier=Allied+Electronics; ComponentLink18Description: https://datasheet.ciiva.com/16757/70154685-16757477.pdf?src-supplier=Allied+Electronics; ComponentLink19URL: https://datasheet.ciiva.com/22713/691949-22713237.pdf?src-supplier=Element14; ComponentLink19Description: https://datasheet.ciiva.com/22713/691949-22713237.pdf?src-supplier=Element14; ComponentLink20URL: https://datasheet.ciiva.com/6564/chpreztr-6564439.pdf?src-supplier=Digi-Key; ComponentLink20Description: https://datasheet.ciiva.com/6564/chpreztr-6564439.pdf?src-supplier=Digi-Key; ComponentLink21URL: https://datasheet.ciiva.com/16935/chpreztr-16935928.pdf?src-supplier=Avnet+Europe; ComponentLink21Description: https://datasheet.ciiva.com/16935/chpreztr-16935928.pdf?src-supplier=Avnet+Europe; ComponentLink22URL: https://datasheet.ciiva.com/6564/chpreztr-6564441.pdf?src-supplier=Digi-Key; ComponentLink22Description: https://datasheet.ciiva.com/6564/chpreztr-6564441.pdf?src-supplier=Digi-Key; ComponentLink23URL: https://datasheet.ciiva.com/9123/chpreztr-9123706.pdf?src-supplier=Avnet; ComponentLink23Description: https://datasheet.ciiva.com/9123/chpreztr-9123706.pdf?src-supplier=Avnet; ComponentLink24URL: https://datasheet.ciiva.com/7986/1902866-7986188.pdf?src-supplier=Element14; ComponentLink24Description: https://datasheet.ciiva.com/7986/1902866-7986188.pdf?src-supplier=Element14; ComponentLink25URL: https://datasheet.ciiva.com/46383/691949-46383788.pdf?src-supplier=Element14; ComponentLink25Description: https://datasheet.ciiva.com/46383/691949-46383788.pdf?src-supplier=Element14; ComponentLink26URL: https://datasheet.ciiva.com/11808/0900766b80fcdb72-11808035.pdf?src-supplier=RSComponents; ComponentLink26Description: https://datasheet.ciiva.com/11808/0900766b80fcdb72-11808035.pdf?src-supplier=RSComponents; ComponentLink27URL: https://datasheet.ciiva.com/19466/774882-19466523.pdf?src-supplier=Jameco; ComponentLink27Description: https://datasheet.ciiva.com/19466/774882-19466523.pdf?src-supplier=Jameco; ComponentLink28URL: https://datasheet.ciiva.com/6547/chpreztr-6547349.pdf?src-supplier=Digi-Key; ComponentLink28Description: https://datasheet.ciiva.com/6547/chpreztr-6547349.pdf?src-supplier=Digi-Key; ComponentLink29URL: https://datasheet.ciiva.com/16941/chpreztr-16941637.pdf?src-supplier=Avnet+Europe; ComponentLink29Description: https://datasheet.ciiva.com/16941/chpreztr-16941637.pdf?src-supplier=Avnet+Europe; ComponentLink30URL: https://datasheet.ciiva.com/22693/1902866-22693205.pdf?src-supplier=Element14; ComponentLink30Description: https://datasheet.ciiva.com/22693/1902866-22693205.pdf?src-supplier=Element14; ComponentLink31URL: https://datasheet.ciiva.com/6547/chpreztr-6547350.pdf?src-supplier=Digi-Key; ComponentLink31Description: https://datasheet.ciiva.com/6547/chpreztr-6547350.pdf?src-supplier=Digi-Key; ComponentLink32URL: https://datasheet.ciiva.com/7001/1902866-7001622.pdf?src-supplier=Newark; ComponentLink32Description: https://datasheet.ciiva.com/7001/1902866-7001622.pdf?src-supplier=Newark; ComponentLink33URL: https://datasheet.ciiva.com/30115/159chpreztr-30115222.pdf?src-supplier=Onlinecomponents.com; ComponentLink33Description: https://datasheet.ciiva.com/30115/159chpreztr-30115222.pdf?src-supplier=Onlinecomponents.com; ComponentLink34URL: https://datasheet.ciiva.com/6547/chpreztr-6547351.pdf?src-supplier=Digi-Key; ComponentLink34Description: https://datasheet.ciiva.com/6547/chpreztr-6547351.pdf?src-supplier=Digi-Key; ComponentLink35URL: https://datasheet.ciiva.com/16757/70154685-16757482.pdf?src-supplier=Allied+Electronics; ComponentLink35Description: https://datasheet.ciiva.com/16757/70154685-16757482.pdf?src-supplier=Allied+Electronics; ComponentLink36URL: https://datasheet.ciiva.com/5546/chpreztr-5546283.pdf?src-supplier=Mouser; ComponentLink36Description: https://datasheet.ciiva.com/5546/chpreztr-5546283.pdf?src-supplier=Mouser; ComponentLink37URL: https://datasheet.ciiva.com/7986/691949-7986156.pdf?src-supplier=Element14; ComponentLink37Description: https://datasheet.ciiva.com/7986/691949-7986156.pdf?src-supplier=Element14; ComponentLink38URL: https://datasheet.ciiva.com/3255/chpreztr-3255917.pdf?src-supplier=Avnet; ComponentLink38Description: https://datasheet.ciiva.com/3255/chpreztr-3255917.pdf?src-supplier=Avnet; ComponentLink39URL: https://datasheet.ciiva.com/5547/chpreztr-5547814.pdf?src-supplier=Mouser; ComponentLink39Description: https://datasheet.ciiva.com/5547/chpreztr-5547814.pdf?src-supplier=Mouser; ComponentLink40URL: https://datasheet.ciiva.com/18594/chpreztr-18594942.pdf?src-supplier=Digi-Key; ComponentLink40Description: https://datasheet.ciiva.com/18594/chpreztr-18594942.pdf?src-supplier=Digi-Key; ComponentLink41URL: https://datasheet.ciiva.com/18594/chpreztr-18594943.pdf?src-supplier=Digi-Key; ComponentLink41Description: https://datasheet.ciiva.com/18594/chpreztr-18594943.pdf?src-supplier=Digi-Key; ComponentLink42URL: https://datasheet.ciiva.com/9119/chpreztr-9119642.pdf?src-supplier=Avnet; ComponentLink42Description: https://datasheet.ciiva.com/9119/chpreztr-9119642.pdf?src-supplier=Avnet; ComponentLink43URL: https://datasheet.ciiva.com/14986/chpreztr-14986477.pdf?src-supplier=Digi-Key; ComponentLink43Description: https://datasheet.ciiva.com/14986/chpreztr-14986477.pdf?src-supplier=Digi-Key; ComponentLink44URL: https://datasheet.ciiva.com/5545/chpreztr-5545629.pdf?src-supplier=Mouser; ComponentLink44Description: https://datasheet.ciiva.com/5545/chpreztr-5545629.pdf?src-supplier=Mouser; ComponentLink45URL: https://datasheet.ciiva.com/9122/chpreztr-9122039.pdf?src-supplier=Avnet; ComponentLink45Description: https://datasheet.ciiva.com/9122/chpreztr-9122039.pdf?src-supplier=Avnet; ComponentLink46URL: https://datasheet.ciiva.com/16937/chpreztr-16937562.pdf?src-supplier=Avnet+Europe; ComponentLink46Description: https://datasheet.ciiva.com/16937/chpreztr-16937562.pdf?src-supplier=Avnet+Europe; Supplier 1: Digi-Key; RoHS: Yes; Category: Chip SMD Resistors; Stock 1: 260094; Pricing 1: 1=0,10000, 10=0,01400, 25=0,01040, 50=0,00800, 100=0,00580, 250=0,00444, 500=0,00356, 1000=0,00262 (USD); Mount: Surface Mount; Case/Package: 0603; Number of Pins: 2; Contact Plating: Tin; Case Code (Imperial): 0603; Case Code (Metric): 1608; Min Operating Temperature: -55°C; Max Operating Temperature: 155°C; Resistance: 0mR; Composition: Thick Film; Termination: SMD/SMT; Military Standard: Not; Packaging: Tape and Reel; Power Rating: 100mW; Voltage Rating: 50V; Package Quantity: 5000; Length: 1.6mm; Height: 0.45mm; Depth: 0.8mm; Thickness: 457um; Width: 0.8mm; Radiation Hardening: No; REACH SVHC: No SVHC; ComponentLink47URL: https://datasheet.ciiva.com/11809/0900766b80fcdb72-11809586.pdf?src-supplier=RSComponents; ComponentLink47Description: https://datasheet.ciiva.com/11809/0900766b80fcdb72-11809586.pdf?src-supplier=RSComponents; ComponentLink48URL: https://datasheet.ciiva.com/16939/chpreztr-16939623.pdf?src-supplier=Avnet+Europe; ComponentLink48Description: https://datasheet.ciiva.com/16939/chpreztr-16939623.pdf?src-supplier=Avnet+Europe; ComponentLink49URL: https://datasheet.ciiva.com/30062/159chpreztr-30062601.pdf?src-supplier=Onlinecomponents.com; ComponentLink49Description: https://datasheet.ciiva.com/30062/159chpreztr-30062601.pdf?src-supplier=Onlinecomponents.com; ComponentLink50URL: https://datasheet.ciiva.com/7986/691949-7986171.pdf?src-supplier=Element14; ComponentLink50Description: https://datasheet.ciiva.com/7986/691949-7986171.pdf?src-supplier=Element14; ComponentLink51URL: https://datasheet.ciiva.com/16761/70154685-16761515.pdf?src-supplier=Allied+Electronics; ComponentLink51Description: https://datasheet.ciiva.com/16761/70154685-16761515.pdf?src-supplier=Allied+Electronics; ComponentLink52URL: https://datasheet.ciiva.com/5545/chpreztr-5545708.pdf?src-supplier=Mouser; ComponentLink52Description: https://datasheet.ciiva.com/5545/chpreztr-5545708.pdf?src-supplier=Mouser; ComponentLink53URL: https://datasheet.ciiva.com/7660/1856384-7660956.pdf?src-supplier=Element14; ComponentLink53Description: https://datasheet.ciiva.com/7660/1856384-7660956.pdf?src-supplier=Element14; ComponentLink54URL: https://datasheet.ciiva.com/7001/1902866-7001645.pdf?src-supplier=Newark; ComponentLink54Description: https://datasheet.ciiva.com/7001/1902866-7001645.pdf?src-supplier=Newark; ComponentLink55URL: https://datasheet.ciiva.com/22693/1902866-22693213.pdf?src-supplier=Element14; ComponentLink55Description: https://datasheet.ciiva.com/22693/1902866-22693213.pdf?src-supplier=Element14; ComponentLink56URL: https://datasheet.ciiva.com/48692/001055497-da-01-en-smd-wid-cr0603-j-000elf-0-0-ohm-1-10w-48692135.pdf?src-supplier=Conrad; ComponentLink56Description: https://datasheet.ciiva.com/48692/001055497-da-01-en-smd-wid-cr0603-j-000elf-0-0-ohm-1-10w-48692135.pdf?src-supplier=Conrad; Supplier Part Number 1: CR0603-J/-000ELFCT-ND
footprint R0603 (Chip Resistor, 2-Leads, Body 1.75x0.95mm)
pins: 1, 2

## RES0603-1.2k-1%
designator R?
RES 1.2K OHM 1% 1/10W 0603; Manufacturer: TE Connectivity; Manufacturer Part Number: CRGCQ0603F1K2; Manufacturer Lifecycle Status: ACTIVE; Resistance: 1.2kΩ; Operating Supply Voltage: 75V; Power Dissipation: 100mW; Value: 1.2kΩ; Temperature Coefficient: 100ppm/°C; Supplier 1: DigiKey; Supplier Part Number 1: A129689CT-ND; Supplier: DigiKey; Supplier Part Number: A129689CT-ND; RoHS: Compliant; Category: Chip SMD Resistors; Stock: 33667; Pricing: 1=0,1, 10=0,029, 25=0,0212, 50=0,0172, 100=0,014, 250=0,01092, 500=0,00918, 1000=0,00782 (USD); Ambient Temperature Range High: 70°C; Case/Package: 0603; China RoHS: Non-Compliant; Composition: Thick Film; Height: 450µm; Lifecycle Status: Production; Max Operating Temperature: 155°C; Min Operating Temperature: -55°C; Mounting Technology: Surface Mount; Number of Terminals: 2; Packaging: Cut Tape; Power Rating: 100mW; REACH SVHC: Yes; Schedule B: 8533210025, 8533210025|8533210025|8533210025|8533210025|8533210025, 8533210045; Tolerance: 1%; Voltage Rating: 75V; Voltage Rating (DC): 75V; Width: 800µm; Working Voltage: 75V; ComponentLink1URL: https://datasheet.octopart.com:443/CRGCQ0603F1K2-TE-Connectivity-datasheet-114679081.pdf?src-supplier=Master+Electronics; ComponentLink1Description: https://datasheet.octopart.com:443/CRGCQ0603F1K2-TE-Connectivity-datasheet-114679081.pdf?src-supplier=Master+Electronics; ComponentLink2URL: https://datasheet.octopart.com:443/2-2176339-6-TE-Connectivity---AMP-datasheet-189108688.pdf?src-supplier=Master+Electronics; ComponentLink2Description: https://datasheet.octopart.com:443/2-2176339-6-TE-Connectivity---AMP-datasheet-189108688.pdf?src-supplier=Master+Electronics; ComponentLink3URL: https://sigma.octopart.com:443/114683329/technical_drawing/TE-Connectivity-CRGCQ0603F1K2.pdf?src-supplier=Sager+Electronics; ComponentLink3Description: https://sigma.octopart.com:443/114683329/technical_drawing/TE-Connectivity-CRGCQ0603F1K2.pdf?src-supplier=Sager+Electronics
footprint R0603 (Chip Resistor, 2-Leads, Body 1.75x0.95mm)
pins: 1, 2

## RES0603-1.8k-1%
designator R?, comment 1.8kR
RES SMD 1.8K OHM 1% 1/10W 0603; Manufacturer: Bourns; Manufacturer Part Number: CR0603-FX-1801ELF; Max Power Dissipation: 100mW; Value: 1.8kΩ; Temperature Coefficient: 100ppm/°C; Voltage Rating: 75V; Voltage Rating (DC): 50V; Resistance: 1.8kR; Supplier: DigiKey; Supplier Part Number: CR0603-FX-1801ELFCT-ND; RoHS: Compliant; Category: Chip SMD Resistors; Stock: 12777; Pricing: 1=0,1, 10=0,02, 25=0,0144, 50=0,0114, 100=0,0091, 250=0,00696, 500=0,00576, 1000=0,0048 (USD); Case/Package: 0603; Case Code (Imperial): 0603; Case Code (Metric): 1608; China RoHS: Non-Compliant; Composition: Thick Film; Contact Plating: Tin; Depth: 800µm; Features: Moisture Resistant; Height: 450µm; Lifecycle Status: Production; Max Operating Temperature: 155°C; Military Standard: Not; Min Operating Temperature: -55°C; Mounting Technology: Surface Mount; Number of Terminals: 2; Number of Terminations: 2; Packaging: Tape & Reel; Power Dissipation: 100mW; Power Rating: 100mW; Radiation Hardening: No; REACH SVHC: Yes; Schedule B: 8533210045, 8533210045|8533210045, 8533210045|8533210045|8533210045, 8533210045|8533210045|8533210045|8533210045; Termination: SMD/SMT; Tolerance: 1%; Width: 800µm; Working Voltage: 75V; ComponentLink1URL: https://datasheet.octopart.com:443/CR0603-FX-1801ELF-Bourns-datasheet-159578630.pdf?src-supplier=IHS; ComponentLink1Description: https://datasheet.octopart.com:443/CR0603-FX-1801ELF-Bourns-datasheet-159578630.pdf?src-supplier=IHS; ComponentLink2URL: https://datasheet.octopart.com:443/CR0603-FX-1801ELF-Bourns-datasheet-181955239.pdf?src-supplier=IHS; ComponentLink2Description: https://datasheet.octopart.com:443/CR0603-FX-1801ELF-Bourns-datasheet-181955239.pdf?src-supplier=IHS; ComponentLink3URL: https://datasheet.octopart.com:443/CR0603-FX-1801ELF-Bourns-datasheet-68301634.pdf?src-supplier=Burklin+Elektronik; ComponentLink3Description: https://datasheet.octopart.com:443/CR0603-FX-1801ELF-Bourns-datasheet-68301634.pdf?src-supplier=Burklin+Elektronik; ComponentLink4URL: https://datasheet.octopart.com/CR0603-FX-1801ELF-Bourns-datasheet-5318152.pdf; ComponentLink4Description: https://datasheet.octopart.com/CR0603-FX-1801ELF-Bourns-datasheet-5318152.pdf; ComponentLink5URL: https://datasheet.octopart.com:443/CR0603-FX-1801ELF-Bourns-datasheet-154729663.pdf?src-supplier=Electro+Sonic; ComponentLink5Description: https://datasheet.octopart.com:443/CR0603-FX-1801ELF-Bourns-datasheet-154729663.pdf?src-supplier=Electro+Sonic; ComponentLink6URL: https://datasheet.octopart.com:443/CR0603-FX-1801ELF-Bourns-datasheet-140567134.pdf?src-supplier=Arrow.cn; ComponentLink6Description: https://datasheet.octopart.com:443/CR0603-FX-1801ELF-Bourns-datasheet-140567134.pdf?src-supplier=Arrow.cn; ComponentLink7URL: http://sigma.octopart.com:80/conflict_mineral_statement/Bourns-company-36.pdf?src-supplier=Compliance+Statements; ComponentLink7Description: http://sigma.octopart.com:80/conflict_mineral_statement/Bourns-company-36.pdf?src-supplier=Compliance+Statements; Supplier 1: DigiKey; Supplier Part Number 1: CR0603-FX-1801ELFCT-ND
footprint R0603 (Chip Resistor, 2-Leads, Body 1.75x0.95mm)
pins: 1, 2